# EAGLE library part ERM8-020-01-D-EMX (library con-samtec-er8)
ERM8 Series - Male Right Angle Edge Mount
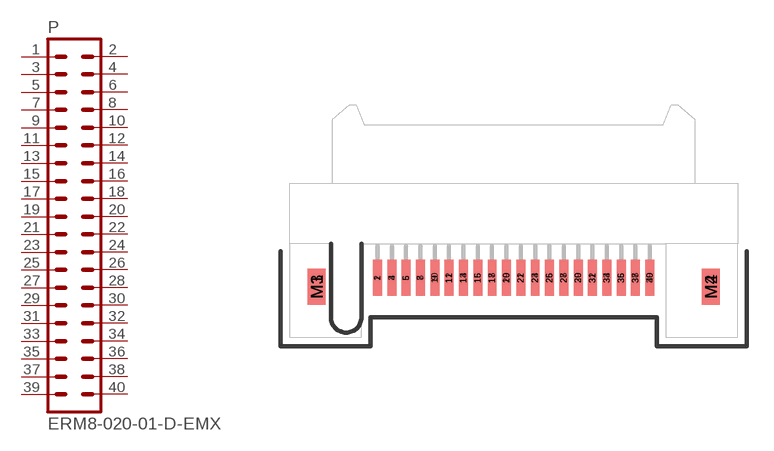
[diagram p43: symbol with the pads of ERM8-020-01-D-EMX; footprint ERM8-020-01-D-EMX]

Designator prefix P

## ERM8-020-01-D-EMX  [ERM8-020-01-D-EMX]
1  1  pas
2  2  pas
3  3  pas
4  4  pas
5  5  pas
6  6  pas
7  7  pas
8  8  pas
9  9  pas
10  10  pas
11  11  pas
12  12  pas
13  13  pas
14  14  pas
15  15  pas
16  16  pas
17  17  pas
18  18  pas
19  19  pas
20  20  pas
21  21  pas
22  22  pas
23  23  pas
24  24  pas
25  25  pas
26  26  pas
27  27  pas
28  28  pas
29  29  pas
30  30  pas
31  31  pas
32  32  pas
33  33  pas
34  34  pas
35  35  pas
36  36  pas
37  37  pas
38  38  pas
39  39  pas
40  40  pas

## Footprint ERM8-020-01-D-EMX (pad centres in mm)
0.8mm Edge Rate Terminal Assembly MALE, Double Row, 20 Position
smd 0.5 x 2 bottom: 1 -7.6,-1.9; 3 -6.8,-1.9; 5 -6,-1.9; 7 -5.2,-1.9; 9 -4.4,-1.9; 11 -3.6,-1.9; 13 -2.8,-1.9; 15 -2,-1.9; 17 -1.2,-1.9; 19 -0.4,-1.9; 21 0.4,-1.9; 23 1.2,-1.9; 25 2,-1.9; 27 2.8,-1.9; 29 3.6,-1.9; 31 4.4,-1.9; 33 5.2,-1.9; 35 6,-1.9; 37 6.8,-1.9; 39 7.6,-1.9
smd 0.5 x 2: 2 -7.6,-1.899; 4 -6.8,-1.899; 6 -6,-1.899; 8 -5.2,-1.899; 10 -4.4,-1.899; 12 -3.6,-1.899; 14 -2.8,-1.899; 16 -2,-1.899; 18 -1.2,-1.899; 20 -0.4,-1.899; 22 0.4,-1.899; 24 1.2,-1.899; 26 2,-1.899; 28 2.8,-1.899; 30 3.6,-1.899; 32 4.4,-1.899; 34 5.2,-1.899; 36 6,-1.899; 38 6.8,-1.899; 40 7.6,-1.899
smd 1 x 2: M1 -11,-2.399; M2 11,-2.399
smd 1 x 2 bottom: M3 -11,-2.4; M4 11,-2.4